# EAGLE library part DS90C401_D_8 (library ds90c401)
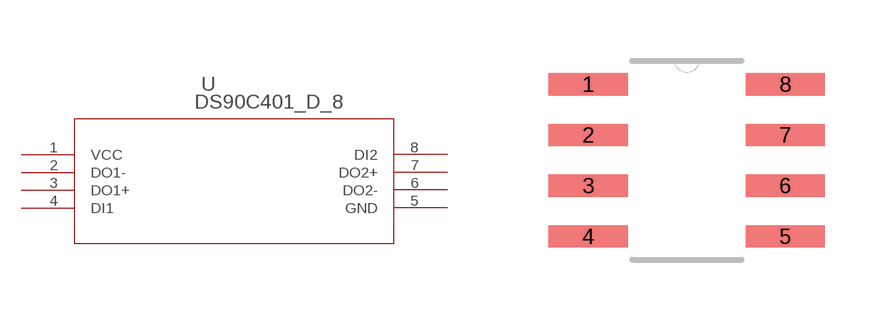
[diagram p0: symbol with the pads of M08A; footprint M08A]

Designator prefix U

## DS90C401_D_8 (BASE_PN: DS90C401; COMPTYPE: Interface; PARTNUMBER: DS90C401M; SYMBOL: NameDS90C401M; TYPE: DS90C401M; VENDOR: NationalSemiconductor; VERSION: 05/02/2007)  [M08A]
1  VCC  pwr
2  DO1-  out
3  DO1+  out
4  DI1  in
5  GND  pwr
6  DO2-  out
7  DO2+  out
8  DI2  in

## Footprint M08A (pad centres in mm)
smd 1.981 x 0.559: 1 -2.464,1.905; 2 -2.464,0.635; 3 -2.464,-0.635; 4 -2.464,-1.905; 5 2.464,-1.905; 6 2.464,-0.635; 7 2.464,0.635; 8 2.464,1.905